# Altium integrated library Connector - Terminal Block.IntLib: 20 symbols
Pins are listed as number, name and electrical type; pins without a type are passive.

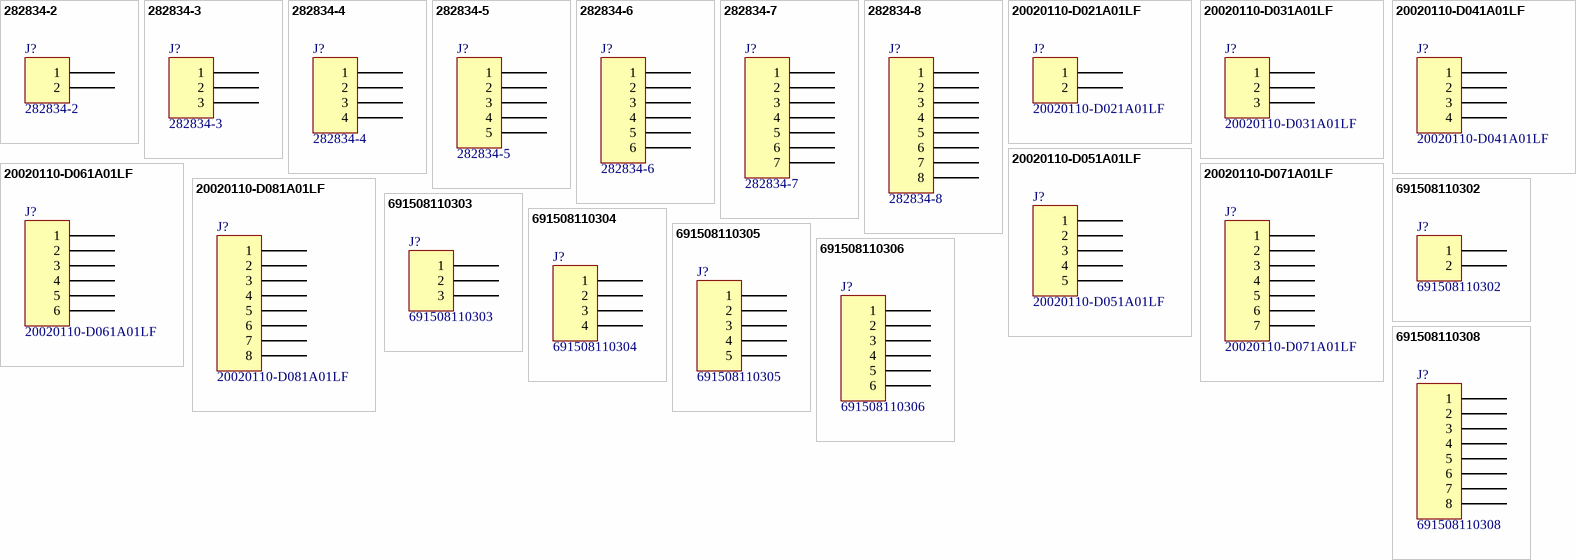
[diagram p0: symbols 282834-2 to 691508110308]

## 282834-2
designator J?
TERM BLOCK 2POS SIDE ENT 2.54MM; Manufacturer: TE Connectivity AMP Connectors; TemperatureRange: -40C ~ 105C; Voltage: 150V; Pitch: 0.100" (2.54mm); Number Of Levels: 1; Positions Per Level: 2; Part Number: 282834-2; PartId: 9289; Supplier 1: Digi-Key; Supplier Part Number 1: A98333-ND; ComponentLink1Description: Datasheet; ComponentLink1URL: http://www.te.com/commerce/DocumentDelivery/DDEController?Action=srchrtrv&DocNm=282834&DocType=Customer+Drawing&DocLang=English; ComponentLink2Description: Digi-Key Listing; ComponentLink2URL: http://www.digikey.ca/product-detail/en/282834-2/A98333-ND/1150135; Price: 1.3; Colour: Green; Orientation: Horizontal with Board
footprint TE 282834-2
pins: 1, 2

## 282834-3
designator J?
TERM BLOCK 3POS SIDE ENT 2.54MM; Manufacturer: TE Connectivity AMP Connectors; TemperatureRange: -40C ~ 105C; Voltage: 150V; Pitch: 0.100" (2.54mm); Number Of Levels: 1; Positions Per Level: 3; Part Number: 282834-3; PartId: 9290; Supplier 1: Digi-Key; Supplier Part Number 1: A98334-ND; ComponentLink1Description: Datasheet; ComponentLink1URL: http://www.te.com/commerce/DocumentDelivery/DDEController?Action=srchrtrv&DocNm=282834&DocType=Customer+Drawing&DocLang=English; ComponentLink2Description: Digi-Key Listing; ComponentLink2URL: http://www.digikey.ca/product-detail/en/282834-3/A98334-ND/1153264; Price: 2.25; Colour: Green; Orientation: Horizontal with Board
footprint TE 282834-3
pins: 1, 2, 3

## 282834-4
designator J?
TERM BLOCK 4POS SIDE ENT 2.54MM; Manufacturer: TE Connectivity AMP Connectors; TemperatureRange: -40C ~ 105C; Voltage: 150V; Pitch: 0.100" (2.54mm); Number Of Levels: 1; Positions Per Level: 4; Part Number: 282834-4; PartId: 9291; Supplier 1: Digi-Key; Supplier Part Number 1: A98335-ND; ComponentLink1Description: Datasheet; ComponentLink1URL: http://www.te.com/commerce/DocumentDelivery/DDEController?Action=srchrtrv&DocNm=282834&DocType=Customer+Drawing&DocLang=English; ComponentLink2Description: Digi-Key Listing; ComponentLink2URL: http://www.digikey.ca/product-detail/en/282834-4/A98335-ND/1153265; Price: 3.34; Colour: Green; Orientation: Horizontal with Board
footprint TE 282834-4
pins: 1, 2, 3, 4

## 282834-5
designator J?
TERM BLOCK 5POS SIDE ENT 2.54MM; Manufacturer: TE Connectivity AMP Connectors; TemperatureRange: -40C ~ 105C; Voltage: 150V; Pitch: 0.100" (2.54mm); Number Of Levels: 1; Positions Per Level: 5; Part Number: 282834-5; PartId: 9292; Supplier 1: Digi-Key; Supplier Part Number 1: A98336-ND; ComponentLink1Description: Datasheet; ComponentLink1URL: http://www.te.com/commerce/DocumentDelivery/DDEController?Action=srchrtrv&DocNm=282834&DocType=Customer+Drawing&DocLang=English; ComponentLink2Description: Digi-Key Listing; ComponentLink2URL: http://www.digikey.ca/product-detail/en/282834-5/A98336-ND/1153266; Price: 3.99; Colour: Green; Orientation: Horizontal with Board
footprint TE 282834-5
pins: 1, 2, 3, 4, 5

## 282834-6
designator J?
TERM BLOCK 6POS SIDE ENT 2.54MM; Manufacturer: TE Connectivity AMP Connectors; TemperatureRange: -40C ~ 105C; Voltage: 150V; Pitch: 0.100" (2.54mm); Number Of Levels: 1; Positions Per Level: 6; Part Number: 282834-6; PartId: 9293; Supplier 1: Digi-Key; Supplier Part Number 1: A98337-ND; ComponentLink1Description: Datasheet; ComponentLink1URL: http://www.te.com/commerce/DocumentDelivery/DDEController?Action=srchrtrv&DocNm=282834&DocType=Customer+Drawing&DocLang=English; ComponentLink2Description: Digi-Key Listing; ComponentLink2URL: http://www.digikey.ca/product-detail/en/282834-6/A98337-ND/1153267; Price: 4.82; Colour: Green; Orientation: Horizontal with Board
footprint TE 282834-6
pins: 1, 2, 3, 4, 5, 6

## 282834-7
designator J?
TERM BLOCK RCPT 7POS VERT 2.54MM; Manufacturer: TE Connectivity AMP Connectors; TemperatureRange: -40C ~ 105C; Voltage: 150V; Pitch: 0.100" (2.54mm); Number Of Levels: 1; Positions Per Level: 7; Part Number: 282834-7; PartId: 9294; Supplier 1: Digi-Key; Supplier Part Number 1: 282834-7-ND; ComponentLink1Description: Datasheet; ComponentLink1URL: http://www.te.com/commerce/DocumentDelivery/DDEController?Action=srchrtrv&DocNm=282834&DocType=Customer+Drawing&DocLang=English; ComponentLink2Description: Digi-Key Listing; ComponentLink2URL: http://www.digikey.ca/product-search/en?vendor=0&keywords=te+282834-7; Price: 5.5039; Colour: Green; Orientation: Horizontal with Board
footprint TE 282834-7
pins: 1, 2, 3, 4, 5, 6, 7

## 282834-8
designator J?
TERM BLOCK 8POS SIDE ENT 2.54MM; Manufacturer: TE Connectivity AMP Connectors; TemperatureRange: -40C ~ 105C; Voltage: 150V; Pitch: 0.100" (2.54mm); Number Of Levels: 1; Positions Per Level: 8; Part Number: 282834-8; PartId: 9295; Supplier 1: Digi-Key; Supplier Part Number 1: A98338-ND; ComponentLink1Description: Datasheet; ComponentLink1URL: http://www.te.com/commerce/DocumentDelivery/DDEController?Action=srchrtrv&DocNm=282834&DocType=Customer+Drawing&DocLang=English; ComponentLink2Description: Digi-Key Listing; ComponentLink2URL: http://www.digikey.ca/product-detail/en/282834-8/A98338-ND/1150136; Price: 8.41; Colour: Green; Orientation: Horizontal with Board
footprint TE 282834-8
pins: 1, 2, 3, 4, 5, 6, 7, 8

## 20020110-D021A01LF
designator J?
TERM BLOCK HDR 2POS R/A 3.81MM; Manufacturer: FCI; TemperatureRange: -40C ~ 115C; Voltage: 300V; Pitch: 0.150" (3.81mm); Number Of Positions: 2; Number Of Levels: 1; Part Number: 20020110-D021A01LF; PartId: 7785; Supplier 1: Digi-Key; Supplier Part Number 1: 609-3819-ND; ComponentLink1Description: Datasheet; ComponentLink1URL: http://portal.fciconnect.com/Comergent//fci/drawing/20020110.pdf; ComponentLink2Description: Digi-Key Listing; ComponentLink2URL: http://www.digikey.ca/product-detail/en/20020110-D021A01LF/609-3819-ND/2261255; Price: 0.75; Type: Through Hole; Colour: Green; Orientation: 90, Right Angle; Positions Per Level: 2
footprint FCI 06-381-2PIN
pins: 1, 2

## 20020110-D031A01LF
designator J?
TERM BLOCK HDR 3POS R/A 3.81MM; Manufacturer: FCI; TemperatureRange: -40C ~ 115C; Voltage: 300V; Pitch: 0.150" (3.81mm); Number Of Positions: 3; Number Of Levels: 1; Part Number: 20020110-D031A01LF; PartId: 7786; Supplier 1: Digi-Key; Supplier Part Number 1: 609-3820-ND; ComponentLink1Description: Datasheet; ComponentLink1URL: http://portal.fciconnect.com/Comergent//fci/drawing/20020110.pdf; ComponentLink2Description: Digi-Key Listing; ComponentLink2URL: http://www.digikey.ca/product-detail/en/20020110-D031A01LF/609-3820-ND/2261261; Price: 1.12; Type: Through Hole; Colour: Green; Orientation: 90, Right Angle; Positions Per Level: 3
footprint FCI 06-381-3PIN
pins: 1, 2, 3

## 20020110-D041A01LF
designator J?
TERM BLOCK HDR 4POS R/A 3.81MM; Manufacturer: FCI; TemperatureRange: -40C ~ 115C; Voltage: 300V; Pitch: 0.150" (3.81mm); Number Of Positions: 4; Number Of Levels: 1; Part Number: 20020110-D041A01LF; PartId: 7787; Supplier 1: Digi-Key; Supplier Part Number 1: 609-3821-ND; ComponentLink1Description: Datasheet; ComponentLink1URL: http://portal.fciconnect.com/Comergent//fci/drawing/20020110.pdf; ComponentLink2Description: Digi-Key Listing; ComponentLink2URL: http://www.digikey.ca/product-detail/en/20020110-D041A01LF/609-3821-ND/2261267; Price: 1.08; Type: Through Hole; Colour: Green; Orientation: 90, Right Angle; Positions Per Level: 4
footprint FCI 06-381-4PIN
pins: 1, 2, 3, 4

## 20020110-D051A01LF
designator J?
TERM BLOCK HDR 5POS R/A 3.81MM; Manufacturer: FCI; TemperatureRange: -40C ~ 115C; Voltage: 300V; Pitch: 0.150" (3.81mm); Number Of Positions: 5; Number Of Levels: 1; Part Number: 20020110-D051A01LF; PartId: 7788; Supplier 1: Digi-Key; Supplier Part Number 1: 609-3822-ND; ComponentLink1Description: Datasheet; ComponentLink1URL: http://portal.fciconnect.com/Comergent//fci/drawing/20020110.pdf; ComponentLink2Description: Digi-Key Listing; ComponentLink2URL: http://www.digikey.ca/product-detail/en/20020110-D051A01LF/609-3822-ND/2261276; Price: 1.33; Type: Through Hole; Colour: Green; Orientation: 90, Right Angle; Positions Per Level: 5
footprint FCI 06-381-5PIN
pins: 1, 2, 3, 4, 5

## 20020110-D061A01LF
designator J?
TERM BLOCK HDR 6POS R/A 3.81MM; Manufacturer: FCI; TemperatureRange: -40C ~ 115C; Voltage: 300V; Pitch: 0.150" (3.81mm); Number Of Positions: 6; Number Of Levels: 1; Part Number: 20020110-D061A01LF; PartId: 7789; Supplier 1: Digi-Key; Supplier Part Number 1: 609-3823-ND; ComponentLink1Description: Datasheet; ComponentLink1URL: http://portal.fciconnect.com/Comergent//fci/drawing/20020110.pdf; ComponentLink2Description: Digi-Key Listing; ComponentLink2URL: http://www.digikey.ca/product-detail/en/20020110-D061A01LF/609-3823-ND/2261282; Price: 1.61; Type: Through Hole; Colour: Green; Orientation: 90, Right Angle; Positions Per Level: 6
footprint FCI 06-381-6PIN
pins: 1, 2, 3, 4, 5, 6

## 20020110-D071A01LF
designator J?
TERM BLOCK HDR 7POS R/A 3.81MM; Manufacturer: FCI; TemperatureRange: -40C ~ 115C; Voltage: 300V; Pitch: 0.150" (3.81mm); Number Of Positions: 7; Number Of Levels: 1; Part Number: 20020110-D071A01LF; PartId: 7790; Supplier 1: Digi-Key; Supplier Part Number 1: 609-3824-ND; ComponentLink1Description: Datasheet; ComponentLink1URL: http://portal.fciconnect.com/Comergent//fci/drawing/20020110.pdf; ComponentLink2Description: Digi-Key Listing; ComponentLink2URL: http://www.digikey.ca/product-detail/en/20020110-D071A01LF/609-3824-ND/2261290; Price: 1.42; Type: Through Hole; Colour: Green; Orientation: 90, Right Angle; Positions Per Level: 7
footprint FCI 06-381-7PIN
pins: 1, 2, 3, 4, 5, 6, 7

## 20020110-D081A01LF
designator J?
TERM BLOCK HDR 8POS R/A 3.81MM; Manufacturer: FCI; TemperatureRange: -40C ~ 115C; Voltage: 300V; Pitch: 0.150" (3.81mm); Number Of Positions: 8; Number Of Levels: 1; Part Number: 20020110-D081A01LF; PartId: 7791; Supplier 1: Digi-Key; Supplier Part Number 1: 609-3825-ND; ComponentLink1Description: Datasheet; ComponentLink1URL: http://portal.fciconnect.com/Comergent//fci/drawing/20020110.pdf; ComponentLink2Description: Digi-Key Listing; ComponentLink2URL: http://www.digikey.ca/product-detail/en/20020110-D081A01LF/609-3825-ND/2261303; Price: 1.62; Type: Through Hole; Colour: Green; Orientation: 90, Right Angle; Positions Per Level: 8
footprint FCI 06-381-8PIN
pins: 1, 2, 3, 4, 5, 6, 7, 8

## 691508110302
designator J?
CONN TERM BLK 2POS 3.5MM BLACK; Manufacturer: Wurth Electronics Inc; TemperatureRange: -40C ~ 130C; Voltage: 300V; Pitch: 0.138" (3.50mm); Number Of Levels: 1; Positions Per Level: 2; Part Number: 691508110302; PartId: 16442; Supplier 1: Digi-Key; Supplier Part Number 1: 732-5963-2-ND; ComponentLink1Description: Datasheet; ComponentLink1URL: http://katalog.we-online.de/em/datasheet/6915081103xx.pdf; ComponentLink2Description: Digi-Key Listing; ComponentLink2URL: http://www.digikey.com/product-detail/en/wurth-electronics-inc/691508110302/732-5963-2-ND/5047808; Price: 1.66; Type: Terminal Blocks - Wire to Board; Colour: Black; Orientation: Horizontal and Vertical with Board
footprint WURTH 691508110302
pins: 1, 2

## 691508110303
designator J?
CONN TERM BLK 3POS 3.5MM BLACK; Manufacturer: Wurth Electronics Inc; TemperatureRange: -40C ~ 130C; Voltage: 300V; Pitch: 0.138" (3.50mm); Number Of Levels: 1; Positions Per Level: 3; Part Number: 691508110303; PartId: 16443; Supplier 1: Digi-Key; Supplier Part Number 1: 732-5964-2-ND; ComponentLink1Description: Datasheet; ComponentLink1URL: http://katalog.we-online.de/em/datasheet/6915081103xx.pdf; ComponentLink2Description: Digi-Key Listing; ComponentLink2URL: http://www.digikey.com/product-detail/en/wurth-electronics-inc/691508110303/732-5964-2-ND/5047809; Price: 2.334; Type: Terminal Blocks - Wire to Board; Colour: Black; Orientation: Horizontal and Vertical with Board
footprint WURTH 691508110303
pins: 1, 2, 3

## 691508110304
designator J?
CONN TERM BLK 4POS 3.5MM BLACK; Manufacturer: Wurth Electronics Inc; TemperatureRange: -40C ~ 130C; Voltage: 300V; Pitch: 0.138" (3.50mm); Number Of Levels: 1; Positions Per Level: 4; Part Number: 691508110304; PartId: 16444; Supplier 1: Digi-Key; Supplier Part Number 1: 732-5965-2-ND; ComponentLink1Description: Datasheet; ComponentLink1URL: http://katalog.we-online.de/em/datasheet/6915081103xx.pdf; ComponentLink2Description: Digi-Key Listing; ComponentLink2URL: http://www.digikey.com/product-detail/en/wurth-electronics-inc/691508110304/732-5965-2-ND/5047810; Price: 3.31; Type: Terminal Blocks - Wire to Board; Colour: Black; Orientation: Horizontal and Vertical with Board
footprint WURTH 691508110304
pins: 1, 2, 3, 4

## 691508110305
designator J?
CONN TERM BLK 5POS 3.5MM BLACK; Manufacturer: Wurth Electronics Inc; TemperatureRange: -40C ~ 130C; Voltage: 300V; Pitch: 0.138" (3.50mm); Number Of Levels: 1; Positions Per Level: 5; Part Number: 691508110305; PartId: 16445; Supplier 1: Digi-Key; Supplier Part Number 1: 732-5966-2-ND; ComponentLink1Description: Datasheet; ComponentLink1URL: http://katalog.we-online.de/em/datasheet/6915081103xx.pdf; ComponentLink2Description: Digi-Key Listing; ComponentLink2URL: http://www.digikey.com/product-detail/en/wurth-electronics-inc/691508110305/732-5966-2-ND/5047811; Price: 3.897; Type: Terminal Blocks - Wire to Board; Colour: Black; Orientation: Horizontal and Vertical with Board
footprint WURTH 691508110305
pins: 1, 2, 3, 4, 5

## 691508110306
designator J?
CONN TERM BLK 6POS 3.5MM BLACK; Manufacturer: Wurth Electronics Inc; TemperatureRange: -40C ~ 130C; Voltage: 300V; Pitch: 0.138" (3.50mm); Number Of Levels: 1; Positions Per Level: 6; Part Number: 691508110306; PartId: 16446; Supplier 1: Digi-Key; Supplier Part Number 1: 732-5967-2-ND; ComponentLink1Description: Datasheet; ComponentLink1URL: http://katalog.we-online.de/em/datasheet/6915081103xx.pdf; ComponentLink2Description: Digi-Key Listing; ComponentLink2URL: http://www.digikey.com/product-detail/en/wurth-electronics-inc/691508110306/732-5967-2-ND/5047812; Price: 4.97; Type: Terminal Blocks - Wire to Board; Colour: Black; Orientation: Horizontal and Vertical with Board
footprint WURTH 691508110306
pins: 1, 2, 3, 4, 5, 6

## 691508110308
designator J?
CONN TERM BLK 8POS 3.5MM BLACK; Manufacturer: Wurth Electronics Inc; TemperatureRange: -40C ~ 130C; Voltage: 300V; Pitch: 0.138" (3.50mm); Number Of Levels: 1; Positions Per Level: 8; Part Number: 691508110308; PartId: 16447; Supplier 1: Digi-Key; Supplier Part Number 1: 732-5968-2-ND; ComponentLink1Description: Datasheet; ComponentLink2Description: Digi-Key Listing; ComponentLink2URL: http://www.digikey.com/product-detail/en/wurth-electronics-inc/691508110308/732-5968-2-ND/5047813; Price: 6.238; Type: Terminal Blocks - Wire to Board; Colour: Black; Orientation: Horizontal and Vertical with Board
footprint WURTH 691508110308
pins: 1, 2, 3, 4, 5, 6, 7, 8